# EAGLE library part TEENSY4.0 (library Teensy4.0)
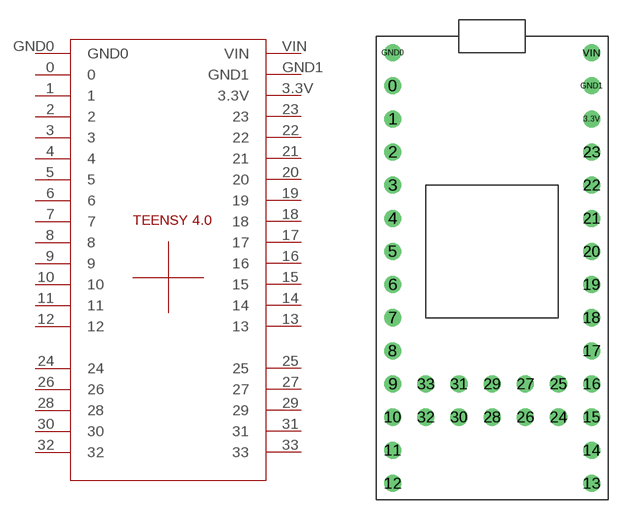
[diagram p0: symbol with the pads of TEENSY4.0; footprint TEENSY4.0]

Designator prefix -

## TEENSY4.0  [TEENSY4.0]
0  0
1  1
2  2
3  3
3.3V  3.3V
4  4
5  5
6  6
7  7
8  8
9  9
10  10
11  11
12  12
13  13
14  14
15  15
16  16
17  17
18  18
19  19
20  20
21  21
22  22
23  23
24  24
25  25
26  26
27  27
28  28
29  29
30  30
31  31
32  32
33  33
GND0  GND0
GND1  GND1
VIN  VIN

## Footprint TEENSY4.0 (pad centres in mm)
drill 0.8: 0 -7.62,12.7; 1 -7.62,10.16; 2 -7.62,7.62; 3 -7.62,5.08; 3.3V 7.62,10.16; 4 -7.62,2.54; 5 -7.62,0; 6 -7.62,-2.54; 7 -7.62,-5.08; 8 -7.62,-7.62; 9 -7.62,-10.16; 10 -7.62,-12.7; 11 -7.62,-15.24; 12 -7.62,-17.78; 13 7.62,-17.78; 14 7.62,-15.24; 15 7.62,-12.7; 16 7.62,-10.16; 17 7.62,-7.62; 18 7.62,-5.08; 19 7.62,-2.54; 20 7.62,0; 21 7.62,2.54; 22 7.62,5.08; 23 7.62,7.62; 24 5.08,-12.7; 25 5.08,-10.16; 26 2.54,-12.7; 27 2.54,-10.16; 28 0,-12.7; 29 0,-10.16; 30 -2.54,-12.7; 31 -2.54,-10.16; 32 -5.08,-12.7; 33 -5.08,-10.16; GND0 -7.62,15.24; GND1 7.62,12.7; VIN 7.62,15.24